# Altium footprint library HDRV6W67P254_2X3_762X483X838P.PcbLib: 1 footprints
Each footprint in its own frame and in the unit in brackets; x right, y up, seen from the top. Pads: shape width x height; smd on the part's side, far side on the other; paste and mask are expansions set on the pad; w line width, h text height; cw(c..) or ccw(c..) is an arc to the next point about the centre after c.
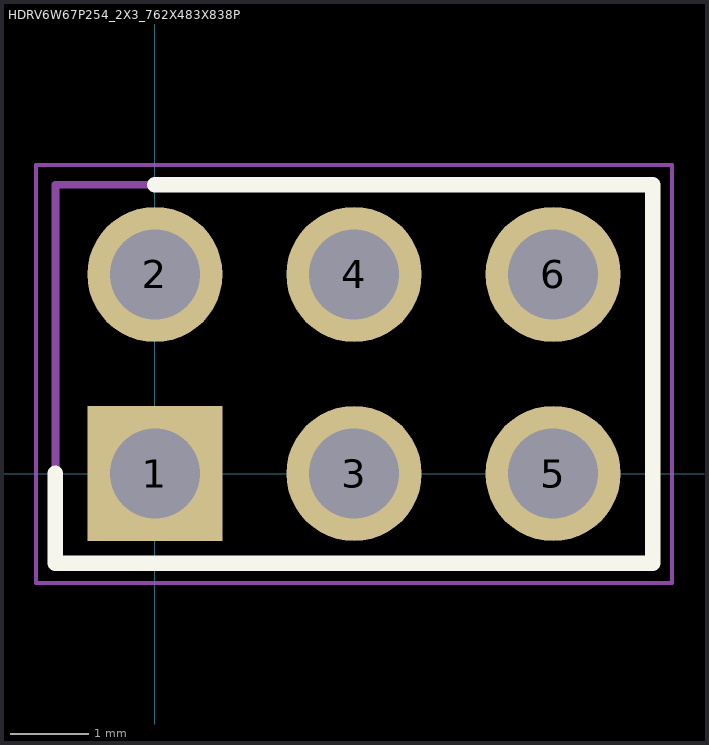
[diagram p0: the footprint, top view; thin cyan lines are the x and y axes]

## HDRV6W67P254_2X3_762X483X838P [mm]
pads (6):
  rect 1.725x1.725 / inner round 1.725 / far side rect 1.725x1.725 hole 1.15: 1(0,0)
  round 1.725 hole 1.15: 2(0,2.54) 3(2.54,0) 4(2.54,2.54) 5(5.08,0) 6(5.08,2.54)
Top Overlay:
  lines w0.2: -1.27,0 -1.27,-1.145 6.35,-1.145 6.35,3.685 0,3.685
Mechanical 15:
  lines w0.1: -1.27,-1.145 -1.27,3.685 6.35,3.685 6.35,-1.145 -1.27,-1.145
Mechanical 20:
  lines w0.05: -1.52,-1.395 -1.52,3.935 6.6,3.935 6.6,-1.395 -1.52,-1.395
3D body "67997-106HLF.stp": height 5.8, standoff -4.65, extent -10,-3.376 10,3.376